# Altium footprint library CON2_JST_ZR-SM4.PcbLib: 1 footprints
Each footprint in its own frame and in the unit in brackets; x right, y up, seen from the top. Pads: shape width x height; smd on the part's side, far side on the other; paste and mask are expansions set on the pad; w line width, h text height; cw(c..) or ccw(c..) is an arc to the next point about the centre after c.
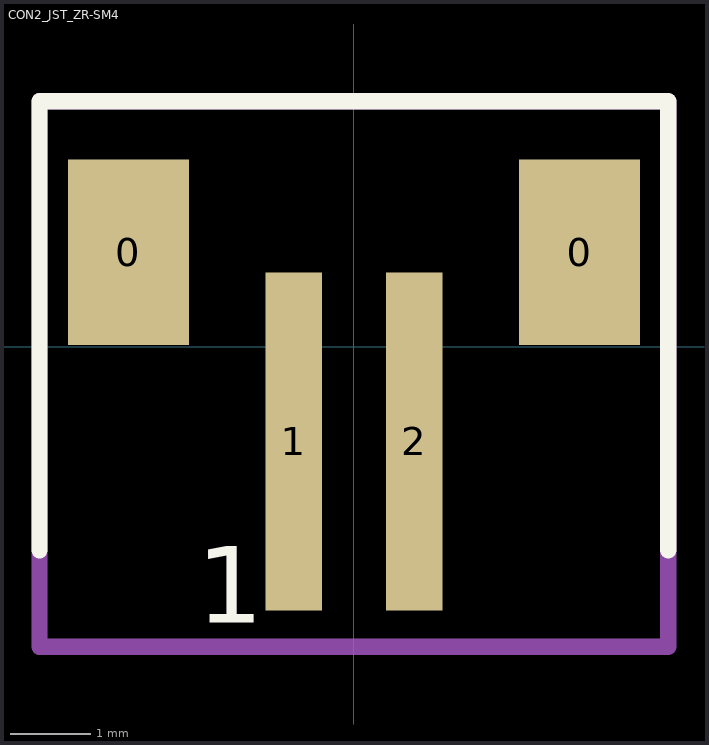
[diagram p0: the footprint, top view; thin cyan lines are the x and y axes]

## CON2_JST_ZR-SM4 [mm] "1.5mm pitch"
height 6.4
pads (4):
  rect 1.5x2.3 smd: 0(-2.8,1.175) 0(2.8,1.175)
  rect 0.7x4.2 smd: 1(-0.75,-1.175) 2(0.75,-1.175)
Top Overlay:
  lines w0.203: -3.904,-2.526 -3.904,3.05 3.9,3.05 3.9,-2.526
  text "1" at -1.95,-3.425 h0.95
Mechanical 1:
  lines w0.203: -3.904,-3.725 -3.904,3.05 3.9,3.05 3.9,-3.725 -3.904,-3.725
3D body "B2B-ZR-SM4-TF.STEP": height 5, standoff 0, extent -3,-2.25 3,2.95